# EAGLE library part MOLEX-HEADER-SMD-1MM-90°-1X10 (library hsk_2012)
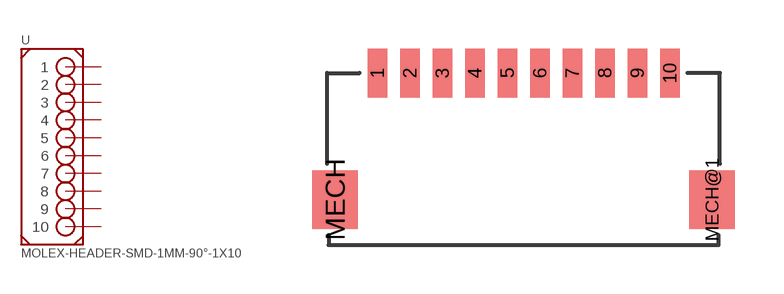
[diagram p17: symbol with the pads of MOLEX-HEADER-SMD-1MM-90°-1X10; footprint MOLEX-HEADER-SMD-1MM-90°-1X10]

Designator prefix -

## MOLEX-HEADER-SMD-1MM-90°-1X10  [MOLEX-HEADER-SMD-1MM-90°-1X10]
1  1
2  2
3  3
4  4
5  5
6  6
7  7
8  8
9  9
10  10

## Footprint MOLEX-HEADER-SMD-1MM-90°-1X10 (pad centres in mm)
smd 0.6 x 1.5: 1 -4.5,4.8; 2 -3.5,4.8; 3 -2.5,4.8; 4 -1.5,4.8; 5 -0.5,4.8; 6 0.5,4.8; 7 1.5,4.8; 8 2.5,4.8; 9 3.5,4.8; 10 4.5,4.8
smd 1.4 x 1.8: MECH -5.8,0.9; MECH@1 5.8,0.9